# Altium schematic symbol library DC_motor_lib.SchLib: 21 symbols
Pins are listed as number, name and electrical type; pins without a type are passive.

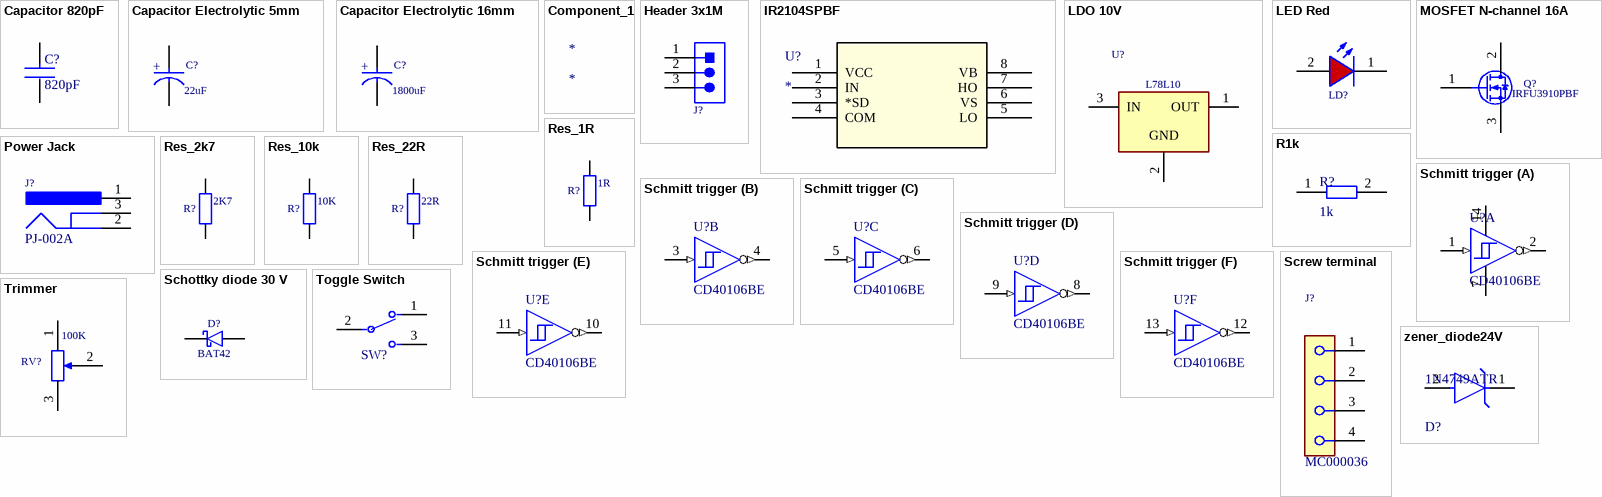
[diagram p0: symbols Capacitor 820pF to zener_diode24V]

## Capacitor 820pF
designator C?, comment 820pF
Ceramic Disc Capacitor, 820 pF, 100 V, ± 10%, Y5P, 5 mm, Radial Leaded; Farnell: 2924986; Capacitance: 820pF
footprint Cap_tht_5mm
pins: 1, 2

## Capacitor Electrolytic 5mm
designator C?, comment Capacitance: 22uF  (hidden comment: ECA1EM220I)
Electrolytic Capacitor, 22 µF, 25 V, ± 20%, Radial Leaded, 2000 hours @ 85°C, Polar; Farnell: 3888911
footprint Cap_radial_5mm
pins: 1 C, 2 A
text: +

## Capacitor Electrolytic 16mm
designator C?, comment Capacitance: 1800uF  (hidden comment: B41896D5188M000)
Electrolytic Capacitor, 1800 µF, 25 V, ± 20%, Radial Leaded, 7000 hours @ 125°C, Polar; Farnell: 2750197
footprint Cap_Radial_16mm
pins: 1 C, 2 A
text: +

## Component_1
designator *

## Header 3x1M
designator J?, comment 5-146278-3  (value not drawn)
Pin Header, Board-to-Board, 2.54 mm, 1 Rows, 3 Contacts, Through Hole Straight, AMPMODU II Series; ComponentLink1Description: Datasheet URL; ComponentLink1URL: http://www.te.com/commerce/DocumentDelivery/DDEController?Action=srchrtrv&DocNm=146278&DocType=Customer+Drawing&DocLang=English; Farnell: 3791596
footprint TE_5-146278-3 (TE CONNECTIVITY)
pins: 1, 2, 3
3 alternate drawings of the same symbol

## IR2104SPBF
designator U?
No Description Available; Mfr_Name: Infineon; RefDes: RefDes; Type: Type
footprint SOIC8_INF-M (Footprint not found)
pins: 1 VCC (power), 2 IN, 3 *SD, 4 COM, 5 LO, 6 VS, 7 HO, 8 VB

## LDO 10V
designator U?, comment L78L10
Linear Voltage Regulator, Fixed, 16V to 35V Input, 10V/100mA Out, TO-92; Footprint: Package_TO_SOT_THT:TO-92_HandSolder; Value: L78L10
footprint TO-92
pins: 1 OUT (power), 2 ADJ/GND, 3 IN (power)
text: GND

## LED Red
designator LD?, comment TLHR5200  (value not drawn)
LED, Red, Through Hole, T-1 3/4 (5mm), 20 mA, 2 V, 635 nm; ComponentLink1URL: https://www.farnell.com/datasheets/2049871.pdf; ComponentLink1Description: Datasheet link; Farnell: 1045479
footprint LED_5.0mm
pins: 1 K, 2 A

## MOSFET N-channel 16A
designator Q?, comment IRFU3910PBF
Power MOSFET, N Channel, 100 V, 16 A, 0.115 ohm, TO-251AA, Through Hole; Farnell: 3155148
footprint TO-251AA
pins: 1, 2, 3

## Power Jack
designator J?, comment PJ-002A
Through Hole Right Angle DC Power Jack, 2.5 A, 2 mm Center Pin, 3 Position, -25 to 85 degC, RoHS, Bulk; Manufacturer: CUIInc.; Brand: CUI; Inside Contact Diameter: 2mm; Voltage Rating: 24V; Outside Contact Diameter: 6.5mm; Current Rating: 2.5A; Insulation Resistance: 50MOhms; Contact Gender: Male; Connector Type: DCPowerJack; Datasheet Version: Rev. 1.03, 04/2016; Housing Material: PolybutyleneTerephthalate(PBT); Operating Temperature Range: -25Cto+85C; Termination Style: ThroughHole; Product Category: DCPowerConnectors; Mounting Technology: ThroughHole; Mounting Style: ThroughHole; Factory Pack Quantity: 500; Contact Plating: Nickel; Package Reference: PJ-002A; Mounting Angle: Right; Package Description: 3-Pin Through Hole Device, Body 14.4 x 9 mm, Height 11 mm; Flammability Rating: UL94V-0; Manufacturer URL: http://www.cui.com/; Product: Jacks; Contact Material: Copper; Datasheet URL: http://www.cui.com/product/resource/pj-002a.pdf; RoHS: True; Mouser: 490-PJ-002A
footprint DC_jack
pins: 1, 2, 3

## R1k
designator R?, comment 1k
1k: 1k
footprint resistor_1k (Footprint not found)
pins: 1, 2

## Res_1R
designator R?, comment value 1R  (hidden comment: 1R / 0.5W)
Footprint: Resistor_THT:R_Axial_DIN0309_L9.0mm_D3.2mm_P12.70mm_Horizontal
footprint Res_1R_Axial_DIN0309
pins: 1, 2

## Res_2k7
designator R?, comment 2K7
Footprint: Resistor_THT:R_Axial_DIN0207_L6.3mm_D2.5mm_P10.16mm_Horizontal; Value: 2K7
footprint Res_2k7_Axial_DIN0207
pins: 1, 2

## Res_10k
designator R?, comment 10K
Footprint: Resistor_THT:R_Axial_DIN0207_L6.3mm_D2.5mm_P10.16mm_Horizontal; Value: 10K
footprint Res_10k_Axial_DIN0207
pins: 1, 2

## Res_22R
designator R?, comment 22R
Footprint: Resistor_THT:R_Axial_DIN0207_L6.3mm_D2.5mm_P10.16mm_Horizontal; Value: 22R
footprint Res_22R_Axial_DIN0207
pins: 1, 2

## Schmitt trigger
designator U?, comment CD40106BE
Logic IC, Inverter, Hex, 1 Inputs, 14 Pins, DIP, 40106; Farnell: 3120105; Supplier 1: Mouser; Supplier Part Number 1: 595-CD40106BE
footprint DIP762W45P254L1969H508Q14 (DIP, 7.62 mm lead span, 2.54 mm pitch; 14 pin, 19.69 mm L X 6.60 mm W X 5.08 mm H body)
part A pins: 1 A (in), 2 G=~{A} (out), 7 VSS (power), 14 VDD (power)
part B pins: 3 B (in), 4 H=~{B} (out)
part C pins: 5 C (in), 6 I=~{C} (out)
part D pins: 8 J=~{D} (out), 9 D (in)
part E pins: 10 K=~{E} (out), 11 E (in)
part F pins: 12 L=~{F} (out), 13 F (in)

## Schottky diode 30 V
designator D?, comment BAT42
Small Signal Schottky Diode, Single, 30 V, 200 mA, 400 mV, 4 A, 125 °C; Farnell: 9801430; Supplier 1: Mouser; Supplier Part Number 1: 625-BAT42; Value: BAT42
footprint BAT42
pins: 1 K, 2 A

## Screw terminal
designator J?, comment MC000036
MULTICOMP PRO MC000036Wire-To-Board Terminal Block, 5.08 mm, 4 Ways, 26 AWG, 12 AWG, 4 mm², Screw; Farnell: 2008006
footprint MC000036
pins: 1, 2, 3, 4

## Toggle Switch
designator SW?, comment A201SYCB04  (value not drawn)
Toggle Switch, On-On, DPDT, Non Illuminated, GEMINI, Panel Mount; Farnell: 1197677
footprint A201SYCB04
pins: 1, 2, 3

## Trimmer
designator RV?, comment value 100K  (hidden comment: 14TR08SA104C)
Footprint: Potentiometer_THT:Potentiometer_Piher_PT-15-V15_Vertical
footprint Potentiometer
pins: 1, 2, 3

## zener_diode24V
designator D?, comment 1N4749ATR
1N4749ATR 1N4749 Series 24 V 1 W 5 uA Through Hole Zener Diode - DO-41; Manufacturer Lifecycle Status: ACTIVE; NexarPartId: 84408802; ESD Protection: No; Material: Glass; Zener Current: 10.5mA; Peak Reverse Current: 5µA; Power Dissipation: 1W; Voltage Tolerance: 5%; Impedance: 25Ω; Working Voltage: 24V; Max Junction Temperature (Tj): 200°C; Element Configuration: Single; Reverse Voltage: 18.2V; Output Current: 2.4A; Length: 5.2mm; Number of Pins: 2; Max Reverse Leakage Current: 5µA; Weight: 245mg; Max Operating Temperature: 200°C; RoHS: Compliant; Lead Free: Lead Free; Mount: Through Hole; Power Rating: 1W; Tolerance: 5%; REACH SVHC: No SVHC; Min Operating Temperature: -65°C; Schedule B: 8541100050, 8541100050|8541100050, 8541100050|8541100050|8541100050, 8541100050|8541100050|8541100050|8541100050; Radiation Hardening: No; Contact Plating: Tin; Packaging: Cut Tape; Lifecycle Status: Production; Test Current: 10.5mA; Zener Voltage: 24V; Height: 2.72mm; Diameter: 2.72mm; Voltage Rating (DC): 24V; Max Power Dissipation: 1W
footprint FP-017AH-MFG
pins: 1 C, 2 A